# Altium footprint library Xtals.PcbLib: 98 footprints (part 1 of 7)
Each footprint in its own frame and in the unit in brackets; x right, y up, seen from the top. Pads: shape width x height; smd on the part's side, far side on the other; paste and mask are expansions set on the pad; w line width, h text height; cw(c..) or ccw(c..) is an arc to the next point about the centre after c.
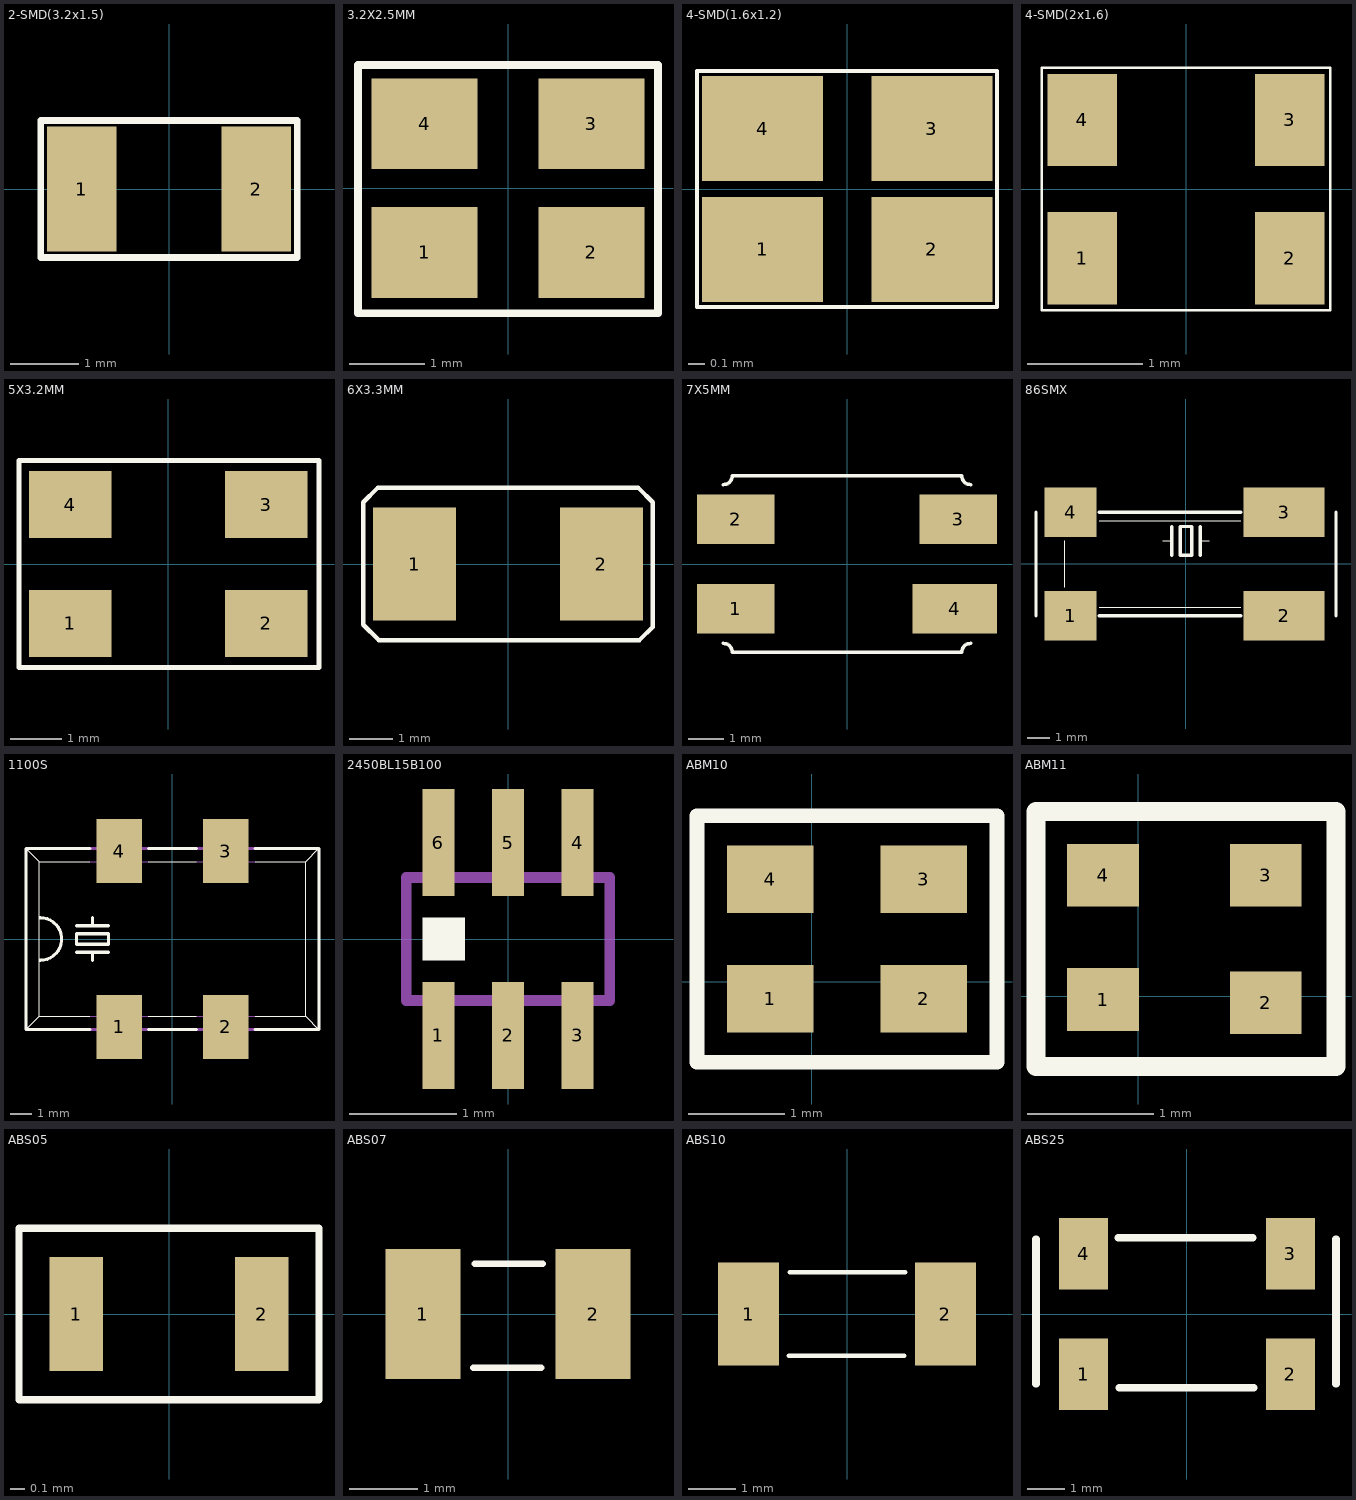
[diagram p0: the footprints below, top view; thin cyan lines are the x and y axes]

## 2-SMD(3.2x1.5) [mil]
pads (2):
  rect 40x72 smd: 1(-50.25,0) 2(50.25,0)
Top Overlay:
  lines w4: -73.75,-39.5 73.75,-39.5 73.75,39.5 -73.75,39.5 -73.75,-39.5
3D body "User Library-ECX-31B.STEP": height 35.43, standoff 0, extent -62.99,-29.53 62.99,29.53

## 3.2X2.5MM [mil]
pads (4):
  rect 55.12x47.24 smd: 1(-43.31,-33.46) 2(43.31,-33.46) 3(43.31,33.46) 4(-43.31,33.46)
Top Overlay:
  lines w3.94: -78,-65 78,-65 78,64 -78,64 -78,-65
3D body "User Library-3225-1.step": height 24.02, standoff 0, extent -62.99,-49.43 63,49

## 4-SMD(1.6x1.2) [mil]
pads (4):
  rect 29.5x25.6 smd: 1(-20.65,-14.75) 2(20.65,-14.75) 3(20.65,14.75) 4(-20.65,14.75)
Top Overlay:
  lines w1: -36.65,-28.75 36.55,-28.75 36.55,28.75 -36.65,28.75 -36.65,-28.75
3D body "NX1612SA-32.000MHZ-CHP-CIS-3--3DModel-STEP-56544.STEP": height 13.78, standoff 0, extent -31.49,-23.62 31.5,23.63

## 4-SMD(2x1.6) [mil]
pads (4):
  rect 23.6x31.5 smd: 1(-35.4,-23.6) 2(35.4,-23.6) 3(35.4,23.6) 4(-35.4,23.6)
Top Overlay:
  lines w1: -49.2,-41.3 49.2,-41.3 49.2,41.4 -49.2,41.4 -49.2,-41.3
3D body "NX2016SA-32M-EXS00A-CS06465--3DModel-STEP-56544.STEP": height 19.68, standoff 0, extent -39.37,-31.45 39.37,31.55

## 5X3.2MM [mil]
pads (4):
  rect 62.99x51.18 smd: 1(-74.8,-45.28) 2(74.8,-45.28) 3(74.8,45.28) 4(-74.8,45.28)
Top Overlay:
  lines w3.94: -114,-79 -114,79 115,79 115,-79 -114,-79
3D body "User Library-CRYSTALSMD5X32.STEP": height 39.37, standoff 0, extent -98,-63.99 98.85,61.99

## 6X3.3MM [mil]
pads (2):
  rect 74.8x102.36 smd: 1(-84.65,0) 2(84.65,0)
Top Overlay:
  lines w3.94: -131,-55 -117.1,-68.9 119.1,-68.9 131,-57 131,56 118.1,68.9 -118.1,68.9 -131,55.99 -131,-55

## 7X5MM [mil]
pads (4):
  rect 86.61x55.12 smd: 1(-124.02,-50) 2(-124.02,50) 3(124.02,50)
  rect 94.49x55.12 smd: 4(120.08,-50)
Top Overlay:
  lines w3.94: -137.8,-88.58 cw(c-137.8,-98.43) -127.95,-98.43 127.95,-98.43 cw(c137.8,-98.43) 137.8,-88.58 ; -137.8,88.58 ccw(c-137.8,98.43) -127.95,98.43 127.95,98.43 ccw(c137.8,98.43) 137.8,88.58
3D body "User Library-KX-13 7,37280.step": height 50.79, standoff -0.39, extent -138.79,-98.43 136.8,98.42

## 86SMX [mil]
pads (4):
  rect 90x86 smd: 1(-200,-90) 4(-200,90)
  rect 140x86 smd: 2(170,-90) 3(170,90)
Top Overlay:
  lines w2: -210,-40 -210,40 ; -150,-75 95,-75 ; -150,75 95,75 ; -40,40 -25,40 ; 25,40 40,40
  lines w6: -260,-90 -260,90 ; -150,-90 95,-90 ; -150,90 95,90 ; -25,15 -25,40 -25,65 ; 25,15 25,40 25,65 ; 260,-90 260,90 ; -10,15 10,15 10,65 -10,65 -10,15

## 1100S [mil]
pads (4):
  rect 86x120 smd: 1(-100,-165) 2(100,-165) 3(100,165) 4(-100,165)
Top Overlay:
  lines w2: -275,-170 -250,-145 ; -275,170 -250,145 ; -155,-145 -250,-145 ; -155,145 -250,145 ; -45,-145 45,-145 ; -45,145 45,145 ; 155,-145 250,-145 ; 155,145 250,145 ; 275,-170 250,-145 ; 275,170 250,145 ; -250,-145 -250,145 ; 250,-145 250,145
  lines w6: -248.03,-40 ccw(c-248.03,0) -248.03,40 ; -180,-25 -150,-25 ; -180,25 -150,25 ; -155,-170 -275,-170 -275,170 -155,170 ; -150,-40 -150,-25 ; -150,40 -150,25 ; -120,-25 -150,-25 ; -120,25 -150,25 ; -45,-170 45,-170 ; -45,170 45,170 ; 155,-170 275,-170 275,170 155,170 ; -180,-10 -180,10 -120,10 -120,-10 -180,-10
Mechanical 16:
  lines w2: -155,-145 -45,-145 ; -155,145 -45,145 ; 45,-145 155,-145 ; 45,145 155,145
  lines w6: -155,-170 -45,-170 ; -155,170 -45,170 ; -130,-170 -130,-195 -70,-195 -70,-170 ; -130,170 -130,195 -70,195 -70,170 ; 45,-170 70,-170 ; 45,170 70,170 ; 155,-170 130,-170 ; 155,170 130,170 ; 70,-170 70,-195 130,-195 130,-170 ; 70,-170 130,-170 ; 70,170 70,195 130,195 130,170 ; 70,170 130,170

## 2450BL15B100 [mm]
pads (6):
  rect 0.3x1 smd: 1(-0.65,-0.9) 2(0,-0.9) 3(0.65,-0.9) 4(0.65,0.9) 5(0,0.9) 6(-0.65,0.9)
Top Overlay:
  rectangle: -0.8,-0.2 -0.4,0.2
Mechanical 16:
  lines w0.102: -0.95,-0.575 0.95,-0.575 0.95,0.575 -0.95,0.575 -0.95,-0.575

## ABM10 [mil]
pads (4):
  rect 35.43x27.56 smd: 1(-17,-7) 2(46,-7) 3(46,42) 4(-17,42)
Top Overlay:
  lines w6: -47,-33 -47,68 76,68 76,-33 -47,-33
3D body "ABM10_Xtal.step": height 27.56, standoff -0.2, extent -35.7,-23.94 66.66,58.74

## ABM11 [mil]
pads (4):
  rect 22.44x19.68 smd: 1(-11,-1) 2(40,-2) 3(40,38) 4(-11,38)
Top Overlay:
  lines w6: -32,-22 -32,58 62,58 62,-22 -32,-22
3D body "ABM11.step": height 23.23, standoff 0, extent -25,-13.5 53.74,49.5

## ABS05 [mil] "0.063\" L x 0.039\" A (1.60 mm x 1.00 mm)"
pads (2):
  rect 15x32 smd: 1(-26,0) 2(26,0)
Top Overlay:
  lines w2: -42,-24 42,-24 42,24 -42,24 -42,-24
3D body "ABS05.STEP": height 19.68, standoff -0.1, extent -31.49,-19.68 31.5,19.69

## ABS07 [mil] "0.126\" L x 0.061\" A (3.20 mm x 1.50 mm)"
pads (2):
  rect 43.31x74.8 smd: 1(-49.21,0) 2(49.21,0)
Top Overlay:
  lines w3.94: -20,-31 19,-31 ; -19,29 20,29
3D body "User Library-ABS07.STEP": height 35.83, standoff 0, extent -63.39,-30 63.39,29.84

## ABS10 [mil] "0.190\" L x 0.070\" A (4.90 mm x 1.80 mm)"
pads (2):
  rect 51.18x86.61 smd: 1(-82.68,0) 2(82.68,0)
Top Overlay:
  lines w3.94: -49,-35 48,-35 ; -48,35 49,35
3D body "User Library-ASB 10.step": height 39.41, standoff -0.04, extent -97.46,-35.43 95.46,35.44

## ABS25 [mil] "0.315\" L x 0.150\" A (8.00 mm x 3.80 mm)"
pads (4):
  rect 51.18x74.8 smd: 1(-108.27,-62.99) 2(108.27,-62.99) 3(108.27,62.99) 4(-108.27,62.99)
Top Overlay:
  lines w7.87: -158,-73 -158,78 ; -72,80 69,80 ; -71,-77 70,-77 ; 156,-73 156,78
3D body "User Library-ABS25.step": height 105.03, standoff -1.53, extent -156.48,-76.74 158.48,80.74